# EAGLE library part NUF6406M (library custom_parts)
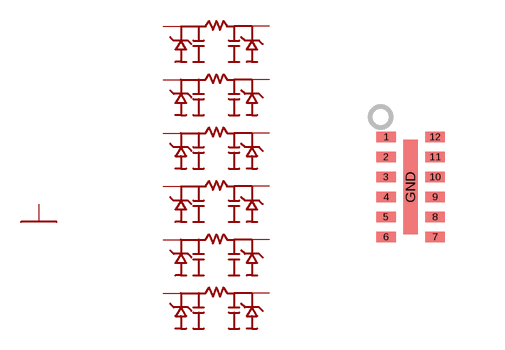
[diagram p7: symbol with the pads of DFN12; footprint DFN12]

Designator prefix -; gates G$1=EMI_PI_FILTER G$2=EMI_PI_FILTER G$3=EMI_PI_FILTER G$4=EMI_PI_FILTER G$5=EMI_PI_FILTER G$6=EMI_PI_FILTER GND=GND

## NUF6406M  [DFN12]
1  G$1:P$1
2  G$2:P$1
3  G$3:P$1
4  G$4:P$1
5  G$5:P$1
6  G$6:P$1
7  G$6:P$2
8  G$5:P$2
9  G$4:P$2
10  G$3:P$2
11  G$2:P$2
12  G$1:P$2
GND  GND:GND  pwr

## Footprint DFN12 (pad centres in mm)
smd 0.479 x 0.265: 1 -0.614,1.25; 2 -0.614,0.75; 3 -0.614,0.25; 4 -0.614,-0.25; 5 -0.614,-0.75; 6 -0.614,-1.25; 7 0.614,-1.25; 8 0.614,-0.75; 9 0.614,-0.25; 10 0.614,0.25; 11 0.614,0.75; 12 0.614,1.25
smd 0.351 x 2.352: GND 0,0